# Altium footprint library PcbLib1.PcbLib: 12 footprints
Each footprint in its own frame and in the unit in brackets; x right, y up, seen from the top. Pads: shape width x height; smd on the part's side, far side on the other; paste and mask are expansions set on the pad; w line width, h text height; cw(c..) or ccw(c..) is an arc to the next point about the centre after c.
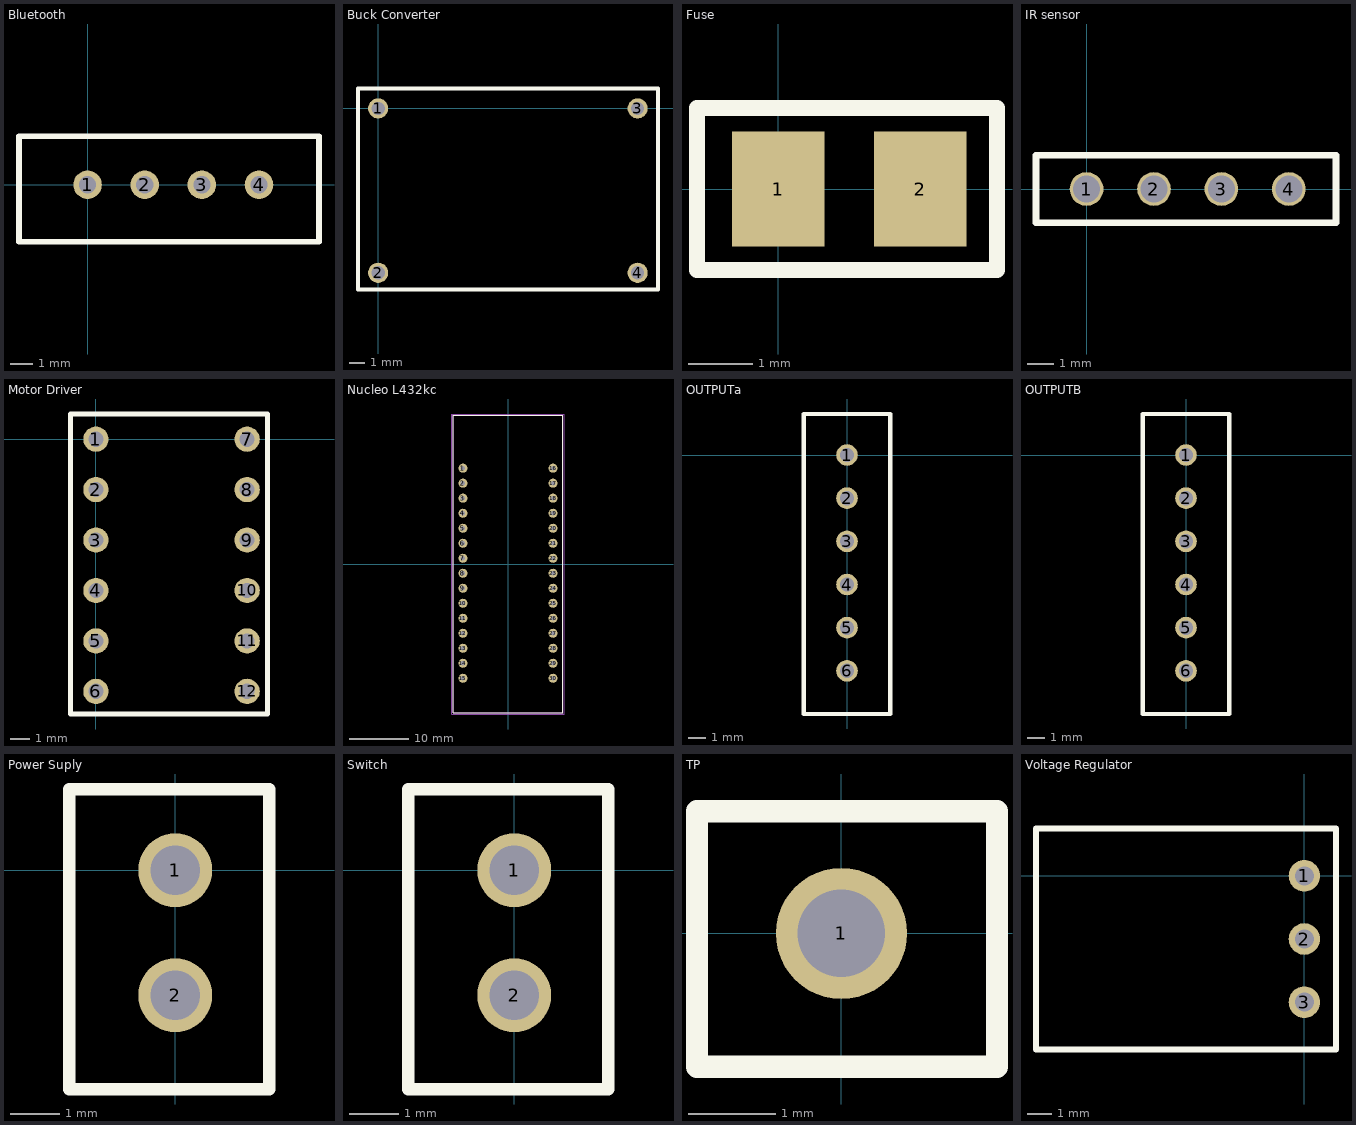
[diagram p0: the footprints below, top view; thin cyan lines are the x and y axes]

## Bluetooth [mil] "Bluetooth"
pads (4):
  round 50 hole 30: 1(0,0) 2(100,0) 3(200,0) 4(300,0)
Top Overlay:
  lines w10: -120,-100 -120,85 405,85 405,-100 -120,-100

## Buck Converter [mil]
pads (4):
  round 50 hole 33: 1(0,0) 2(0,-408.07) 3(644.29,0) 4(644.29,-408.07)
Top Overlay:
  lines w10: -50,-430 -50,50 695,50 695,-450 -50,-450 -50,-420

## Fuse [mm]
pads (2):
  rect 1.45x1.8 all layers, no hole: 1(0,0) 2(2.225,0)
Top Overlay:
  lines w0.254: -1.27,-1.27 3.429,-1.27 3.429,1.27 -1.27,1.27 -1.27,-1.27

## IR sensor [mil]
pads (4):
  round 50 hole 40: 1(0,0) 2(100,0) 3(200,0) 4(300,0)
Top Overlay:
  lines w10: -75,-50 -75,-25 -75,50 370,50 370,-50 -75,-50

## Motor Driver [mil]
pads (12):
  round 50 hole 30: 1(0,0) 2(0,-100) 3(0,-200) 4(0,-300) 5(0,-400) 6(0,-500) 7(300,0) 8(300,-100) 9(300,-200) 10(300,-300) 11(300,-400) 12(300,-500)
Top Overlay:
  lines w10: -50,-545 340,-545 340,50 -50,50 -50,-545

## Nucleo L432kc [mm]
pads (30):
  round 1.53 hole 0.762: 1(-7.62,16.215) 2(-7.62,13.675) 3(-7.62,11.135) 4(-7.62,8.595) 5(-7.62,6.055) 6(-7.62,3.515) 7(-7.62,0.975) 8(-7.62,-1.565) 9(-7.62,-4.105) 10(-7.62,-6.645) 11(-7.62,-9.185) 12(-7.62,-11.725) 13(-7.62,-14.265) 14(-7.62,-16.805) 15(-7.62,-19.345) 16(7.62,16.215) 17(7.62,13.675) 18(7.62,11.135) 19(7.62,8.595) 20(7.62,6.055) 21(7.62,3.515) 22(7.62,0.975) 23(7.62,-1.565) 24(7.62,-4.105) 25(7.62,-6.645) 26(7.62,-9.185) 27(7.62,-11.725) 28(7.62,-14.265) 29(7.62,-16.805) 30(7.62,-19.345)
Top Overlay:
  lines w0.127: -9.27,-25.145 -9.27,25.145 9.27,25.145 9.27,-25.145 -9.27,-25.145
Mechanical 13:
  lines w0.127: -9.27,-25.145 9.27,-25.145 9.27,25.145 -9.27,25.145 -9.27,-25.145
Mechanical 15:
  lines w0.05: -9.52,-25.395 9.52,-25.395 9.52,25.395 -9.52,25.395 -9.52,-25.395

## OUTPUTa [mil]
pads (6):
  round 50 hole 33: 1(0,0) 2(0,-100) 3(0,-200) 4(0,-300) 5(0,-400) 6(0,-500)
Top Overlay:
  lines w10: -100,-600 -100,95 100,95 100,-600 0,-600 -100,-600

## OUTPUTB [mil]
pads (6):
  round 50 hole 33: 1(0,0) 2(0,-100) 3(0,-200) 4(0,-300) 5(0,-400) 6(0,-500)
Top Overlay:
  lines w10: -100,-600 0,-600 100,-600 100,95 -100,95 -100,-600

## Power Suply [mm]
pads (2):
  round 1.5 hole 1: 1(0,0) 2(0,-2.54)
Top Overlay:
  lines w0.254: -2.159,-0.889 -2.159,1.651 1.905,1.651 1.905,-4.445 -2.159,-4.445 -2.159,-0.254

## Switch [mm]
pads (2):
  round 1.5 hole 1: 1(0,0) 2(0,-2.54)
Top Overlay:
  lines w0.254: -2.159,-0.889 -2.159,1.651 1.905,1.651 1.905,-4.445 -2.159,-4.445 -2.159,-0.254

## TP [mm]
pads (1):
  round 1.5 hole 1: 1(0,0)
Top Overlay:
  lines w0.254: -1.651,-1.524 -1.651,1.397 1.778,1.397 1.778,-1.524 -1.651,-1.524

## Voltage Regulator [mil]
pads (3):
  round 50 hole 30: 1(0,0) 2(0,-100) 3(0,-200)
Top Overlay:
  lines w10: 0,-275 50,-275 ; 50,-275 -425,-275 -425,75 50,75 50,-275